# Altium integrated library EL817.IntLib: 1 symbol
Pins are listed as number, name and electrical type; pins without a type are passive.

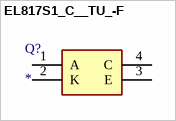
[diagram p0: symbol EL817S1_C__TU_-F]

## EL817S1_C__TU_-F
designator Q?
Phototransistor; Manufacturer_Name: Everlight; Manufacturer_Part_Number: EL817S1(C)(TU)-F; Datasheet Link: https://datasheet.lcsc.com/szlcsc/Everlight-Elec-EL817S1-C-TU-F_C106900.pdf; Height: 3.9mm; Arrow Part Number: EL817S1(C)(TU)-F
footprint SOP254P1030X390-4N
pins: 1 A, 2 K, 3 E, 4 C